# Altium footprint library Hole.PcbLib: 5 footprints
Each footprint in its own frame and in the unit in brackets; x right, y up, seen from the top. Pads: shape width x height; smd on the part's side, far side on the other; paste and mask are expansions set on the pad; w line width, h text height; cw(c..) or ccw(c..) is an arc to the next point about the centre after c.
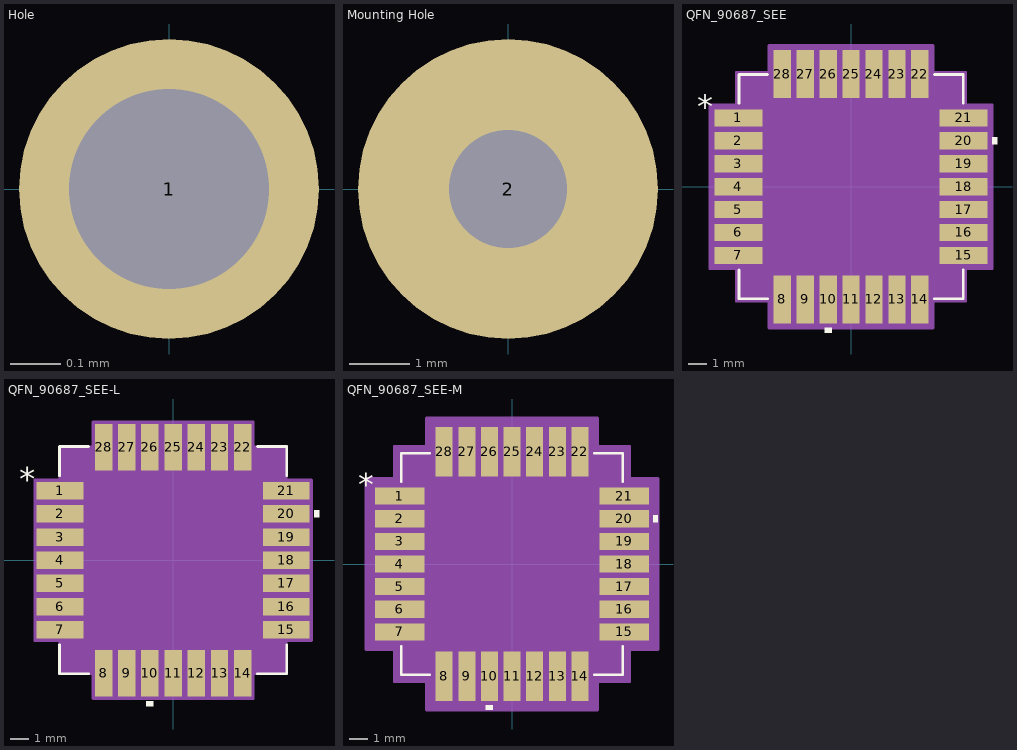
[diagram p0: the footprints below, top view; thin cyan lines are the x and y axes]

## Hole [mm]
pads (1):
  round 0.6 hole 0.4: 1(0,0)

## Mounting Hole [mm]
pads (1):
  round 5 hole 1.96: 2(0,0)

## QFN_90687_SEE [mil]
pads (28):
  rect 103x37 smd paste+0 mask+0: 1(-242,147.64) 2(-242,98.43) 3(-242,49.21) 4(-242,0) 5(-242,-49.21) 6(-242,-98.43) 7(-242,-147.64) 15(242,-147.64) 16(242,-98.43) 17(242,-49.21) 18(242,0) 19(242,49.21) 20(242,98.43) 21(242,147.64)
  rect 37x103 smd paste+0 mask+0: 8(-147.64,-242) 9(-98.43,-242) 10(-49.21,-242) 11(0,-242) 12(49.21,-242) 13(98.43,-242) 14(147.64,-242) 22(147.64,242) 23(98.43,242) 24(49.21,242) 25(0,242) 26(-49.21,242) 27(-98.43,242) 28(-147.64,242)
Top Overlay:
  region: 303.5,105.93 313.5,105.93 313.5,90.93 303.5,90.93
  region: -41.71,-303.5 -56.71,-303.5 -56.71,-313.5 -41.71,-313.5
  lines w6: -241,-179.24 -241,-241 -179.24,-241 ; -241,179.24 -241,241 -179.24,241 ; 179.24,-241 241,-241 241,-179.24 ; 179.24,241 241,241 241,179.24
  text "*" at -331,147.24 h50
Mechanical 13:
  lines w1: -236,186 -186,236 ; -281.5,-167.14 -236,-167.14 -236,-128.14 -281.5,-128.14 -281.5,-167.14 ; -281.5,-117.93 -236,-117.93 -236,-78.93 -281.5,-78.93 -281.5,-117.93 ; -281.5,-68.71 -236,-68.71 -236,-29.71 -281.5,-29.71 -281.5,-68.71 ; -281.5,-19.5 -236,-19.5 -236,19.5 -281.5,19.5 -281.5,-19.5 ; -281.5,29.71 -236,29.71 -236,68.71 -281.5,68.71 -281.5,29.71 ; -281.5,78.93 -236,78.93 -236,117.93 -281.5,117.93 -281.5,78.93 ; -281.5,128.14 -236,128.14 -236,167.14 -281.5,167.14 -281.5,128.14 ; -236,-236 -236,236 236,236 236,-236 -236,-236 ; -167.14,-281.5 -128.14,-281.5 -128.14,-236 -167.14,-236 -167.14,-281.5 ; -167.14,236 -167.14,281.5 -128.14,281.5 -128.14,236 -167.14,236 ; -117.93,-281.5 -78.93,-281.5 -78.93,-236 -117.93,-236 -117.93,-281.5 ; -117.93,236 -117.93,281.5 -78.93,281.5 -78.93,236 -117.93,236 ; -68.71,-281.5 -29.71,-281.5 -29.71,-236 -68.71,-236 -68.71,-281.5 ; -68.71,236 -68.71,281.5 -29.71,281.5 -29.71,236 -68.71,236 ; -19.5,-281.5 19.5,-281.5 19.5,-236 -19.5,-236 -19.5,-281.5 ; -19.5,236 -19.5,281.5 19.5,281.5 19.5,236 -19.5,236 ; 29.71,-281.5 68.71,-281.5 68.71,-236 29.71,-236 29.71,-281.5 ; 29.71,236 29.71,281.5 68.71,281.5 68.71,236 29.71,236 ; 78.93,-281.5 117.93,-281.5 117.93,-236 78.93,-236 78.93,-281.5 ; 78.93,236 78.93,281.5 117.93,281.5 117.93,236 78.93,236 ; 128.14,-281.5 167.14,-281.5 167.14,-236 128.14,-236 128.14,-281.5 ; 128.14,236 128.14,281.5 167.14,281.5 167.14,236 128.14,236 ; 236,-167.14 281.5,-167.14 281.5,-128.14 236,-128.14 236,-167.14 ; 236,-117.93 281.5,-117.93 281.5,-78.93 236,-78.93 236,-117.93 ; 236,-68.71 281.5,-68.71 281.5,-29.71 236,-29.71 236,-68.71 ; 236,-19.5 281.5,-19.5 281.5,19.5 236,19.5 236,-19.5 ; 236,29.71 281.5,29.71 281.5,68.71 236,68.71 236,29.71 ; 236,78.93 281.5,78.93 281.5,117.93 236,117.93 236,78.93 ; 236,128.14 281.5,128.14 281.5,167.14 236,167.14 236,128.14
  text "*" at -203,147.24 h50
Mechanical 15:
  region: -176.14,-246 -246,-246 -246,-176.14 -303.5,-176.14 -303.5,176.14 -246,176.14 -246,246 -176.14,246 -176.14,303.5 176.14,303.5 176.14,246 246,246 246,176.14 303.5,176.14 303.5,-176.14 246,-176.14 246,-246 176.14,-246 176.14,-303.5 -176.14,-303.5
  lines w6: -303.5,-176.14 -303.5,176.14 -246,176.14 -246,246 -176.14,246 -176.14,303.5 176.14,303.5 176.14,246 246,246 246,176.14 303.5,176.14 303.5,-176.14 246,-176.14 246,-246 176.14,-246 176.14,-303.5 -176.14,-303.5 -176.14,-246 -246,-246 -246,-176.14 -303.5,-176.14
3D body "QFN_90687_SEE.step": height 98.11, standoff 0, extent -281.5,-281.5 281.5,281.5

## QFN_90687_SEE-L [mil]
pads (28):
  rect 99x37 smd paste+0 mask+0: 1(-240,147.64) 2(-240,98.43) 3(-240,49.21) 4(-240,0) 5(-240,-49.21) 6(-240,-98.43) 7(-240,-147.64) 15(240,-147.64) 16(240,-98.43) 17(240,-49.21) 18(240,0) 19(240,49.21) 20(240,98.43) 21(240,147.64)
  rect 37x99 smd paste+0 mask+0: 8(-147.64,-240) 9(-98.43,-240) 10(-49.21,-240) 11(0,-240) 12(49.21,-240) 13(98.43,-240) 14(147.64,-240) 22(147.64,240) 23(98.43,240) 24(49.21,240) 25(0,240) 26(-49.21,240) 27(-98.43,240) 28(-147.64,240)
Top Overlay:
  region: -41.71,-299.5 -56.71,-299.5 -56.71,-309.5 -41.71,-309.5
  region: 299.5,105.93 309.5,105.93 309.5,90.93 299.5,90.93
  lines w6: -241,-179.24 -241,-241 -179.24,-241 ; -241,179.24 -241,241 -179.24,241 ; 179.24,-241 241,-241 241,-179.24 ; 179.24,241 241,241 241,179.24
  text "*" at -327,147.24 h50
Mechanical 13:
  lines w1: -236,186 -186,236 ; -281.5,-167.14 -281.5,-128.14 -236,-128.14 -236,-167.14 -281.5,-167.14 ; -281.5,-117.93 -281.5,-78.93 -236,-78.93 -236,-117.93 -281.5,-117.93 ; -281.5,-68.71 -281.5,-29.71 -236,-29.71 -236,-68.71 -281.5,-68.71 ; -281.5,-19.5 -281.5,19.5 -236,19.5 -236,-19.5 -281.5,-19.5 ; -281.5,29.71 -281.5,68.71 -236,68.71 -236,29.71 -281.5,29.71 ; -281.5,78.93 -281.5,117.93 -236,117.93 -236,78.93 -281.5,78.93 ; -281.5,128.14 -281.5,167.14 -236,167.14 -236,128.14 -281.5,128.14 ; -236,-236 236,-236 236,236 -236,236 -236,-236 ; -167.14,-281.5 -167.14,-236 -128.14,-236 -128.14,-281.5 -167.14,-281.5 ; -167.14,236 -128.14,236 -128.14,281.5 -167.14,281.5 -167.14,236 ; -117.93,-281.5 -117.93,-236 -78.93,-236 -78.93,-281.5 -117.93,-281.5 ; -117.93,236 -78.93,236 -78.93,281.5 -117.93,281.5 -117.93,236 ; -68.71,-281.5 -68.71,-236 -29.71,-236 -29.71,-281.5 -68.71,-281.5 ; -68.71,236 -29.71,236 -29.71,281.5 -68.71,281.5 -68.71,236 ; -19.5,-281.5 -19.5,-236 19.5,-236 19.5,-281.5 -19.5,-281.5 ; -19.5,236 19.5,236 19.5,281.5 -19.5,281.5 -19.5,236 ; 29.71,-281.5 29.71,-236 68.71,-236 68.71,-281.5 29.71,-281.5 ; 29.71,236 68.71,236 68.71,281.5 29.71,281.5 29.71,236 ; 78.93,-281.5 78.93,-236 117.93,-236 117.93,-281.5 78.93,-281.5 ; 78.93,236 117.93,236 117.93,281.5 78.93,281.5 78.93,236 ; 128.14,-281.5 128.14,-236 167.14,-236 167.14,-281.5 128.14,-281.5 ; 128.14,236 167.14,236 167.14,281.5 128.14,281.5 128.14,236 ; 236,-167.14 236,-128.14 281.5,-128.14 281.5,-167.14 236,-167.14 ; 236,-117.93 236,-78.93 281.5,-78.93 281.5,-117.93 236,-117.93 ; 236,-68.71 236,-29.71 281.5,-29.71 281.5,-68.71 236,-68.71 ; 236,-19.5 236,19.5 281.5,19.5 281.5,-19.5 236,-19.5 ; 236,29.71 236,68.71 281.5,68.71 281.5,29.71 236,29.71 ; 236,78.93 236,117.93 281.5,117.93 281.5,78.93 236,78.93 ; 236,128.14 236,167.14 281.5,167.14 281.5,128.14 236,128.14
  text "*" at -203,147.24 h50
Mechanical 15:
  region: -170.14,-240 -240,-240 -240,-170.14 -293.5,-170.14 -293.5,170.14 -240,170.14 -240,240 -170.14,240 -170.14,293.5 170.14,293.5 170.14,240 240,240 240,170.14 293.5,170.14 293.5,-170.14 240,-170.14 240,-240 170.14,-240 170.14,-293.5 -170.14,-293.5
  lines w6: -293.5,-170.14 -240,-170.14 -240,-240 -170.14,-240 -170.14,-293.5 170.14,-293.5 170.14,-240 240,-240 240,-170.14 293.5,-170.14 293.5,170.14 240,170.14 240,240 170.14,240 170.14,293.5 -170.14,293.5 -170.14,240 -240,240 -240,170.14 -293.5,170.14 -293.5,-170.14
3D body "QFN_90687_SEE.step": height 98.11, standoff 0, extent -281.5,-281.5 281.5,281.5

## QFN_90687_SEE-M [mil]
pads (28):
  rect 107x37 smd paste+0 mask+0: 1(-244,147.64) 2(-244,98.43) 3(-244,49.21) 4(-244,0) 5(-244,-49.21) 6(-244,-98.43) 7(-244,-147.64) 15(244,-147.64) 16(244,-98.43) 17(244,-49.21) 18(244,0) 19(244,49.21) 20(244,98.43) 21(244,147.64)
  rect 37x107 smd paste+0 mask+0: 8(-147.64,-244) 9(-98.43,-244) 10(-49.21,-244) 11(0,-244) 12(49.21,-244) 13(98.43,-244) 14(147.64,-244) 22(147.64,244) 23(98.43,244) 24(49.21,244) 25(0,244) 26(-49.21,244) 27(-98.43,244) 28(-147.64,244)
Top Overlay:
  region: -41.71,-307.5 -56.71,-307.5 -56.71,-317.5 -41.71,-317.5
  region: 307.5,105.93 317.5,105.93 317.5,90.93 307.5,90.93
  lines w6: -241,-179.24 -241,-241 -179.24,-241 ; -241,179.24 -241,241 -179.24,241 ; 179.24,-241 241,-241 241,-179.24 ; 179.24,241 241,241 241,179.24
  text "*" at -335,147.24 h50
Mechanical 13:
  lines w1: -236,186 -186,236 ; -281.5,-167.14 -281.5,-128.14 -236,-128.14 -236,-167.14 -281.5,-167.14 ; -281.5,-117.93 -281.5,-78.93 -236,-78.93 -236,-117.93 -281.5,-117.93 ; -281.5,-68.71 -281.5,-29.71 -236,-29.71 -236,-68.71 -281.5,-68.71 ; -281.5,-19.5 -281.5,19.5 -236,19.5 -236,-19.5 -281.5,-19.5 ; -281.5,29.71 -281.5,68.71 -236,68.71 -236,29.71 -281.5,29.71 ; -281.5,78.93 -281.5,117.93 -236,117.93 -236,78.93 -281.5,78.93 ; -281.5,128.14 -281.5,167.14 -236,167.14 -236,128.14 -281.5,128.14 ; -236,-236 236,-236 236,236 -236,236 -236,-236 ; -167.14,-281.5 -167.14,-236 -128.14,-236 -128.14,-281.5 -167.14,-281.5 ; -167.14,236 -128.14,236 -128.14,281.5 -167.14,281.5 -167.14,236 ; -117.93,-281.5 -117.93,-236 -78.93,-236 -78.93,-281.5 -117.93,-281.5 ; -117.93,236 -78.93,236 -78.93,281.5 -117.93,281.5 -117.93,236 ; -68.71,-281.5 -68.71,-236 -29.71,-236 -29.71,-281.5 -68.71,-281.5 ; -68.71,236 -29.71,236 -29.71,281.5 -68.71,281.5 -68.71,236 ; -19.5,-281.5 -19.5,-236 19.5,-236 19.5,-281.5 -19.5,-281.5 ; -19.5,236 19.5,236 19.5,281.5 -19.5,281.5 -19.5,236 ; 29.71,-281.5 29.71,-236 68.71,-236 68.71,-281.5 29.71,-281.5 ; 29.71,236 68.71,236 68.71,281.5 29.71,281.5 29.71,236 ; 78.93,-281.5 78.93,-236 117.93,-236 117.93,-281.5 78.93,-281.5 ; 78.93,236 117.93,236 117.93,281.5 78.93,281.5 78.93,236 ; 128.14,-281.5 128.14,-236 167.14,-236 167.14,-281.5 128.14,-281.5 ; 128.14,236 167.14,236 167.14,281.5 128.14,281.5 128.14,236 ; 236,-167.14 236,-128.14 281.5,-128.14 281.5,-167.14 236,-167.14 ; 236,-117.93 236,-78.93 281.5,-78.93 281.5,-117.93 236,-117.93 ; 236,-68.71 236,-29.71 281.5,-29.71 281.5,-68.71 236,-68.71 ; 236,-19.5 236,19.5 281.5,19.5 281.5,-19.5 236,-19.5 ; 236,29.71 236,68.71 281.5,68.71 281.5,29.71 236,29.71 ; 236,78.93 236,117.93 281.5,117.93 281.5,78.93 236,78.93 ; 236,128.14 236,167.14 281.5,167.14 281.5,128.14 236,128.14
  text "*" at -203,147.24 h50
Mechanical 15:
  region: -186.14,-256 -256,-256 -256,-186.14 -317.5,-186.14 -317.5,186.14 -256,186.14 -256,256 -186.14,256 -186.14,317.5 186.14,317.5 186.14,256 256,256 256,186.14 317.5,186.14 317.5,-186.14 256,-186.14 256,-256 186.14,-256 186.14,-317.5 -186.14,-317.5
  lines w6: -317.5,-186.14 -256,-186.14 -256,-256 -186.14,-256 -186.14,-317.5 186.14,-317.5 186.14,-256 256,-256 256,-186.14 317.5,-186.14 317.5,186.14 256,186.14 256,256 186.14,256 186.14,317.5 -186.14,317.5 -186.14,256 -256,256 -256,186.14 -317.5,186.14 -317.5,-186.14
3D body "QFN_90687_SEE.step": height 98.11, standoff 0, extent -281.5,-281.5 281.5,281.5